# EAGLE library part MAX323 (library U-Transceiver)
MAX3233E/MAX3235E 3.3V/5V, Dual RS-232 Transceivers with Internal Capacitors
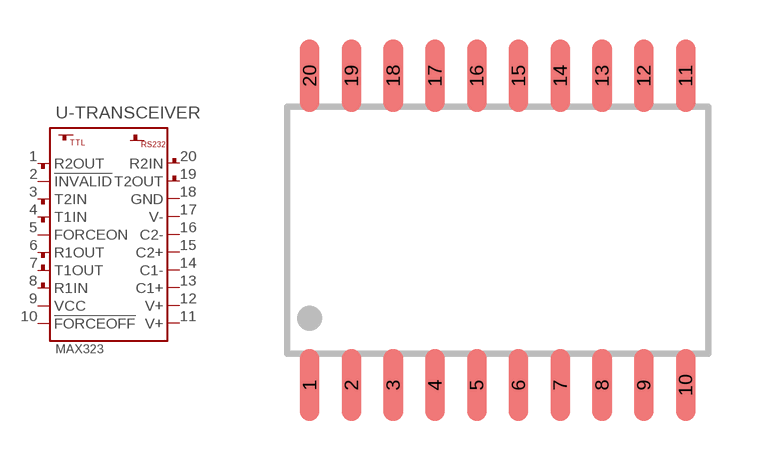
[diagram p3: symbol with the pads of SOIC20; footprint SOIC20]

Designator prefix U-TRANSCEIVER

## MAX3233E  [SOIC20]
1  R2OUT  out
2  !INVALID!  out
3  T2IN  in
4  T1IN  in
5  FORCEON  in
6  R1OUT  out
7  T1OUT  out
8  R1IN  in
9  VCC  pwr
10  !FORCEOFF!  out
11  V+  pas
12  V+  pas
13  C1+  pas
14  C1-  pas
15  C2+  pas
16  C2-  pas
17  V-  pas
18  GND  pwr
19  T2OUT  out
20  R2IN  in

## Footprint SOIC20 (pad centres in mm)
20POS Standard SMALLl OUTLINE Package (SO/SOIC) 7.5mm wide 1.27mm pitch
smd 0.6 x 2.2: 1 -5.715,-4.7; 2 -4.445,-4.7; 3 -3.175,-4.7; 4 -1.905,-4.7; 5 -0.635,-4.7; 6 0.635,-4.7; 7 1.905,-4.7; 8 3.175,-4.7; 9 4.445,-4.7; 10 5.715,-4.7; 11 5.715,4.7; 12 4.445,4.7; 13 3.175,4.7; 14 1.905,4.7; 15 0.635,4.7; 16 -0.635,4.7; 17 -1.905,4.7; 18 -3.175,4.7; 19 -4.445,4.7; 20 -5.715,4.7